# EAGLE library part RS7R125CHTB1 (library RS7R125CHTB1)
MOSFETs DFN 150V 125A N-CH Source: Datasheet
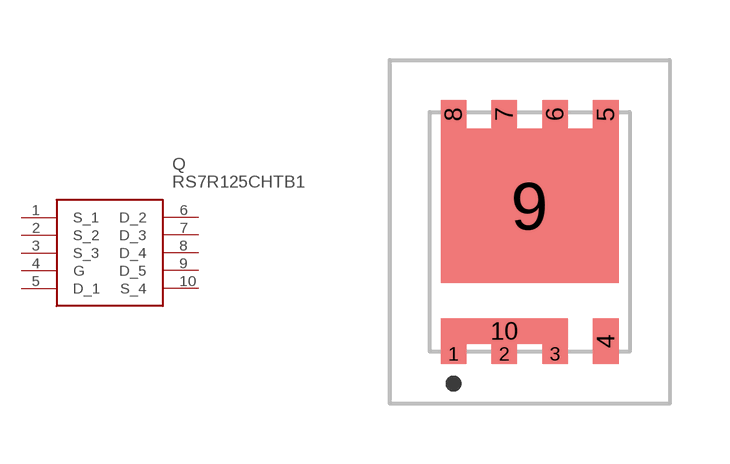
[diagram p0: symbol with the pads of RS7E200BGTB1; footprint RS7E200BGTB1]

Designator prefix Q

## RS7R125CHTB1 (Description: MOSFETs DFN 150V 125A N-CH; Height: 1.1mm; Manufacturer_Name: ROHM Semiconductor; Manufacturer_Part_Number: RS7R125CHTB1)  [RS7E200BGTB1]
1  S_1
2  S_2
3  S_3
4  G
5  D_1
6  D_2
7  D_3
8  D_4
9  D_5
10  S_4

## Footprint RS7E200BGTB1 (pad centres in mm)
DFN5060-8S
smd 0.64 x 0.5: 1 -1.905,-3.05; 2 -0.635,-3.05; 3 0.635,-3.05
smd 0.64 x 1.13: 4 1.905,-2.735
smd 0.64 x 0.72: 5 1.905,2.94; 6 0.635,2.94; 7 -0.635,2.94; 8 -1.905,2.94
smd 4.45 x 3.86: 9 0,0.65
smd 3.18 x 0.63: 10 -0.635,-2.485